# Altium footprint library RF Filter.PcbLib: 9 footprints
Each footprint in its own frame and in the unit in brackets; x right, y up, seen from the top. Pads: shape width x height; smd on the part's side, far side on the other; paste and mask are expansions set on the pad; w line width, h text height; cw(c..) or ccw(c..) is an arc to the next point about the centre after c.
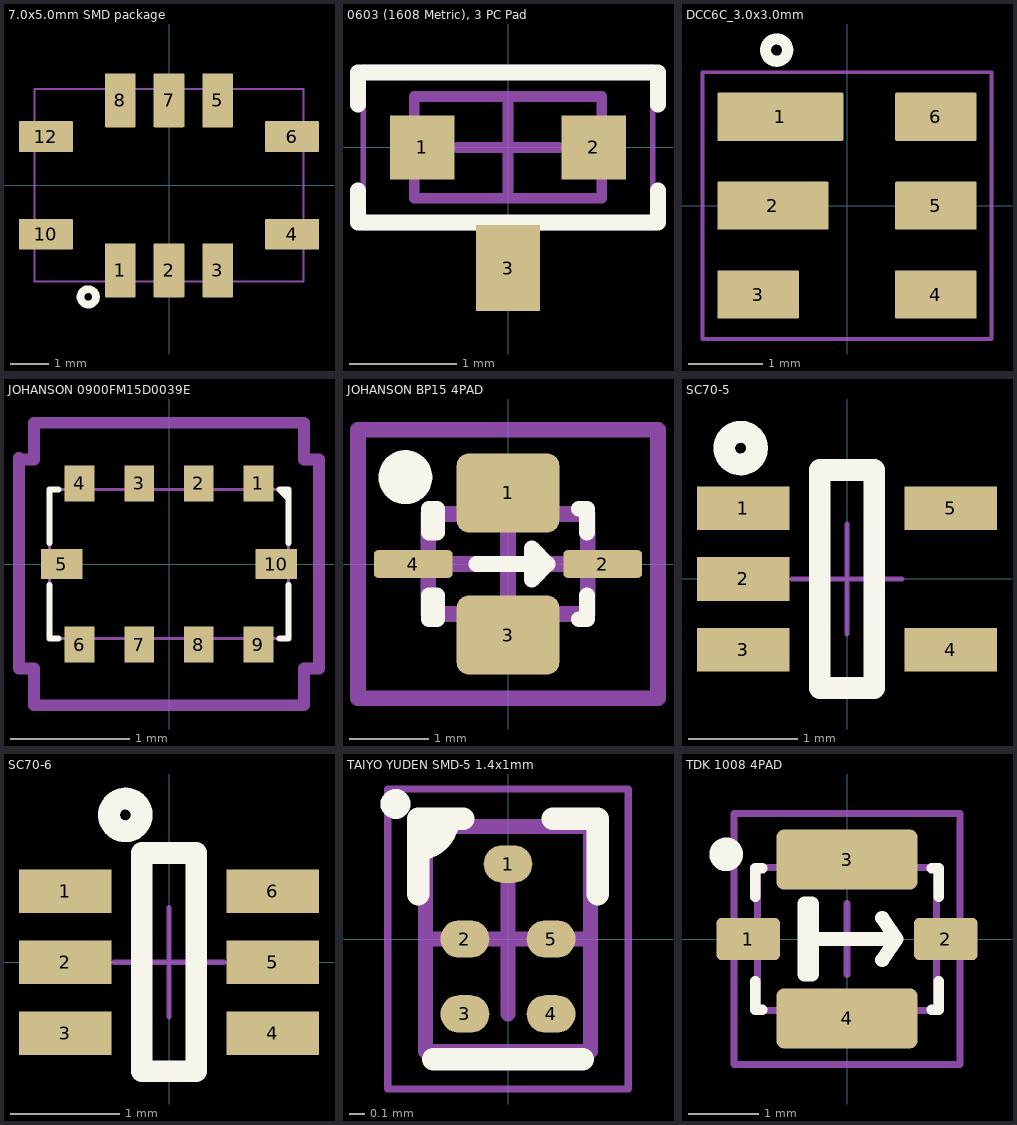
[diagram p0: the footprints below, top view; thin cyan lines are the x and y axes]

## 7.0x5.0mm SMD package [mm] "7.0x5.0mm SMD package - 10pins"
height 1.2
pads (10):
  rrect5% 0.8x1.4 smd mask+0.05: 1(-1.27,-2.21) 2(0,-2.21) 3(1.27,-2.21) 5(1.27,2.21) 7(0,2.21) 8(-1.27,2.21)
  rrect5% 1.4x0.8 smd mask+0.05: 4(3.2,-1.27) 6(3.2,1.27) 10(-3.2,-1.27) 12(-3.2,1.27)
Top Overlay:
  circle w0.2: c-2.1,-2.9 r0.2
Top Courtyard (Mech15):
  lines w0.05: -3.5,-2.5 3.5,-2.5 3.5,2.5 -3.5,2.5 -3.5,-2.5
3D body: height 1, standoff 0, extent -3.5,-2.5 3.5,2.5

## 0603 (1608 Metric), 3 PC Pad [mm]
pads (3):
  rect 0.6x0.6 smd: 1(-0.8,0) 2(0.8,0)
  rect 0.6x0.8 smd: 3(0,-1.125)
Top Overlay:
  lines w0.15: -1.4,-0.4 -1.4,-0.7 1.4,-0.7 1.4,-0.4 ; -1.4,0.4 -1.4,0.7 1.4,0.7 1.4,0.4
Top Component Outline:
  lines w0.1: -0.875,-0.475 0.875,-0.475 0.875,0.475 -0.875,0.475 -0.875,-0.475
Top Courtyard (Mech15):
  lines w0.05: -1.35,-0.75 1.35,-0.75 1.35,0.75 -1.35,0.75 -1.35,-0.75
  lines w0.1: -0.475,0 0.475,0 ; 0,-0.475 0,0.475
3D body "0603 cap.STEP": height 0.82, standoff 0, extent 2.9,0.288 4.5,1.112

## DCC6C_3.0x3.0mm [mm] "DCC6C footprint, 3.0x3.0mm"
height 1.1
pads (6):
  rrect5% 1.7x0.65 smd mask+0.05: 1(-0.9,1.2)
  rrect5% 1.5x0.65 smd mask+0.05: 2(-1,0)
  rrect5% 1.1x0.65 smd mask+0.05: 3(-1.2,-1.2) 4(1.2,-1.2) 5(1.2,0) 6(1.2,1.2)
Top Overlay:
  circle w0.15: c-0.95,2.1 r0.15
Top Courtyard (Mech15):
  lines w0.05: -1.95,-1.8 -1.95,1.8 1.95,1.8 1.95,-1.8 -1.95,-1.8
3D body: height 1, standoff 0, extent -1.5,-1.5 1.5,1.5

## JOHANSON 0900FM15D0039E [mm]
pads (10):
  rect 0.25x0.3 smd paste+0 mask+0: 1(0.75,0.676) 2(0.25,0.676) 3(-0.25,0.676) 4(-0.75,0.676) 6(-0.75,-0.676) 7(-0.25,-0.676) 8(0.25,-0.676) 9(0.75,-0.676)
  rect 0.35x0.25 smd paste+0 mask+0: 5(-0.898,0) 10(0.898,0)
Top Overlay:
  lines w0.05: -1,-0.175 -1,-0.625 -0.925,-0.625 ; -1,0.175 -1,0.625 -0.925,0.625 ; 0.925,-0.625 1,-0.625 1,-0.175 ; 1,0.175 1,0.625 0.925,0.625 1,0.55
Top Component Outline:
  lines w0.025: -1,-0.625 -1,0.625 1,0.625 1,-0.625 -1,-0.625
Top Courtyard (Mech15):
  lines w0.1: -1.257,-0.876 -1.131,-0.876 -1.131,-1.184 1.131,-1.184 1.131,-0.876 1.257,-0.876 ; -1.257,-0.875 -1.257,0.889 ; -1.257,0.876 -1.131,0.876 -1.131,1.184 1.131,1.184 1.131,0.876 1.257,0.876 1.257,-0.875
3D body "0900FM15D0039E_JOT.step": height 0.8, standoff 0, extent -1.003,-0.625 1.003,0.625

## JOHANSON BP15 4PAD [mm] "Johanson RF Filter"
height 0.95
pads (4):
  rrect30% 1.3x1 smd: 1(0,0.9) 3(0,-0.9)
  rrect30% 1x0.35 smd: 2(1.2,0) 4(-1.2,0)
Top Overlay:
  circle w0.4: c-1.3,1.1 r0.141
  lines w0.2: -0.4,0 0.5,0 ; 0.9,-0.7 1,-0.7 1,-0.4 ; 0.9,0.7 1,0.7 1,0.4 ; 0.5,0 0.3,-0.2 0.3,0.2 0.5,0 ; -1,-0.7 -1,-0.4 -0.9,-0.4 -0.9,-0.7 -1,-0.7 ; -1,0.4 -0.9,0.4 -0.9,0.7 -1,0.7 -1,0.4
Board:
  lines w0.2: -1.01,-0.635 1.01,-0.635 1.01,0.635 -1.01,0.635 -1.01,-0.635
Top Courtyard (Mech15):
  lines w0.2: -1,0 1,0 ; 0,-1 0,1 ; -1.9,-1.7 -1.9,0 -1.9,1.7 1.9,1.7 1.9,-1.7 -1.9,-1.7
3D body "Johanson BP15 4 PAD.STEP": height 0.96, standoff -0.01, extent -1.01,-0.635 1.01,0.635

## SC70-5 [mm] "SC70 5-Leads, Body 2.0x1.25mm, Pitch 0.65mm"
height 1.45
pads (5):
  rect 0.85x0.4 smd mask+0.05: 1(-0.95,0.65) 2(-0.95,0) 3(-0.95,-0.65) 4(0.95,-0.65) 5(0.95,0.65)
Top Overlay:
  circle w0.2: c-0.975,1.2 r0.15
  lines w0.2: -0.25,-1 -0.25,1 0.25,1 0.25,-1 -0.25,-1
Top Courtyard (Mech15):
  lines w0.05: -0.5,0 0.5,0 ; 0,-0.5 0,0.5
3D body: height 1.45, standoff 0, extent -0.625,-1 0.625,1

## SC70-6 [mm] "SC70 6-Leads, Body 2.0x1.25mm, Pitch 0.65mm"
height 1.45
pads (6):
  rect 0.85x0.4 smd mask+0.05: 1(-0.95,0.65) 2(-0.95,0) 3(-0.95,-0.65) 4(0.95,-0.65) 5(0.95,0) 6(0.95,0.65)
Top Overlay:
  circle w0.2: c-0.4,1.35 r0.15
  lines w0.2: -0.25,-1 -0.25,1 0.25,1 0.25,-1 -0.25,-1
Top Courtyard (Mech15):
  lines w0.05: -0.5,0 0.5,0 ; 0,-0.5 0,0.5
3D body "TSSOP-6 SOT-23-6 PITCH 0,65.STEP": height 1.09, standoff -0.02, extent -1.125,-1.125 1.125,1.125

## TAIYO YUDEN SMD-5 1.4x1mm [mm] "5-SMD 5 Leads 1.4 x 1.0 SAW Filter"
height 0.5
pads (5):
  oval 0.325x0.25 smd: 1(0,0.5) 2(-0.288,0) 3(-0.288,-0.5) 4(0.288,-0.5) 5(0.288,0)
Top Overlay:
  circle w0.1: c-0.75,0.9 r0.05
  region: -0.45,0.8 -0.6,0.8 -0.6,0.6 -0.4,0.8
  lines w0.15: -0.6,0.3 -0.6,0.8 -0.3,0.8 ; -0.6,0.6 ccw(c-0.6,0.8) -0.4,0.8 ; -0.5,-0.8 0.5,-0.8 ; 0.3,0.8 0.6,0.8 0.6,0.3
Top Component Outline:
  lines w0.1: -0.55,-0.75 -0.55,0.75 0.55,0.75 0.55,-0.75 -0.55,-0.75
Top Courtyard (Mech15):
  lines w0.05: -0.8,-1 -0.8,1 0.8,1 0.8,-1 -0.8,-1
  lines w0.1: -0.5,0 0.5,0 ; 0,-0.5 0,0.5
3D body: height 0.2, standoff 0, extent -0.55,-0.75 0.55,0.75
3D body: height 0.5, standoff 0, extent -0.525,-0.725 0.525,0.725

## TDK 1008 4PAD [mm] "1008 4PC Pin RF Filter Chip"
height 1
pads (4):
  rrect25% 0.9x0.6 smd: 1(-1.4,0) 2(1.4,0)
  rrect25% 2x0.85 smd: 3(0,1.125) 4(0,-1.125)
Top Overlay:
  circle w0.254: c-1.712,1.2 r0.112
  lines w0.15: -1.3,-0.6 -1.3,-1 -1.2,-1 ; -1.3,0.6 -1.3,1 -1.2,1 ; 1.2,-1 1.3,-1 1.3,-0.6 ; 1.2,1 1.3,1 1.3,0.6
  lines w0.2: -0.6,0 0.7,0 ; 0.5,-0.3 0.7,0 ; 0.5,0.3 0.7,0 ; -0.6,-0.5 -0.5,-0.5 -0.5,0.5 -0.6,0.5 -0.6,-0.5
Top Component Outline:
  lines w0.1: -1.27,-1.016 -1.27,1.016 1.27,1.016 1.27,-1.016 -1.27,-1.016
Top Courtyard (Mech15):
  lines w0.1: -0.5,0 0.5,0 ; 0,-0.5 0,0.5 ; -1.6,-1.775 -1.6,1.775 1.6,1.775 1.6,-1.775 -1.6,-1.775
3D body "RF Filter-1008-4PC.STEP": height 0.89, standoff -0.01, extent -1.25,-1 1.25,1